# EAGLE library part TMPM373FWDUG (library TMPM373FWDUG)
Toshiba Source: Datasheet <https://www.google.co.jp/url?sa=t&rct=j&q=&esrc=s&source=web&cd=3&ved=0ahUKEwiq3JT2yYnZAhUMmZQKHcJABQkQFgg1MAI&url=https://toshiba.semicon-storage.com/info/docget.jsp?did=14205&prodName=TMPM373FWDUG&usg=AOvVaw0T5kWW_QBeWivZH9mjqKmO>
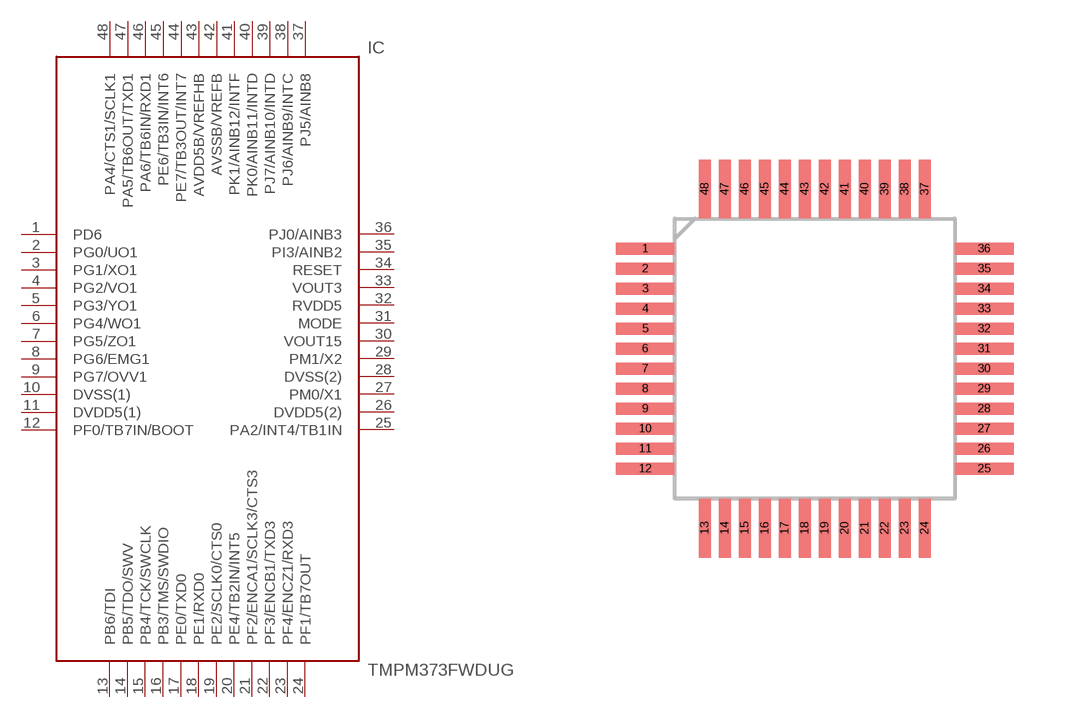
[diagram p0: symbol with the pads of QFP50P900X900X160-48N; footprint QFP50P900X900X160-48N]

Designator prefix IC

## TMPM373FWDUG (DESCRIPTION: Toshiba; HEIGHT: 1.6mm; MANUFACTURER_NAME: Toshiba; MANUFACTURER_PART_NUMBER: TMPM373FWDUG; SUPPLIER_NAME: RS)  [QFP50P900X900X160-48N]
1  PD6  pas
2  PG0/UO1  pas
3  PG1/XO1  pas
4  PG2/VO1  pas
5  PG3/YO1  pas
6  PG4/WO1  pas
7  PG5/ZO1  pas
8  PG6/EMG1  pas
9  PG7/OVV1  pas
10  DVSS(1)  pwr
11  DVDD5(1)  pwr
12  PF0/TB7IN/BOOT  pas
13  PB6/TDI  pas
14  PB5/TDO/SWV  pas
15  PB4/TCK/SWCLK  pas
16  PB3/TMS/SWDIO  pas
17  PE0/TXD0  pas
18  PE1/RXD0  pas
19  PE2/SCLK0/CTS0  pas
20  PE4/TB2IN/INT5  pas
21  PF2/ENCA1/SCLK3/CTS3  pas
22  PF3/ENCB1/TXD3  pas
23  PF4/ENCZ1/RXD3  pas
24  PF1/TB7OUT  pas
25  PA2/INT4/TB1IN  pas
26  DVDD5(2)  pwr
27  PM0/X1  pas
28  DVSS(2)  pwr
29  PM1/X2  pas
30  VOUT15  pwr
31  MODE  in
32  RVDD5  pwr
33  VOUT3  pwr
34  RESET  in
35  PI3/AINB2  pas
36  PJ0/AINB3  pas
37  PJ5/AINB8  pas
38  PJ6/AINB9/INTC  pas
39  PJ7/AINB10/INTD  pas
40  PK0/AINB11/INTD  pas
41  PK1/AINB12/INTF  pas
42  AVSSB/VREFB  pas
43  AVDD5B/VREFHB  pas
44  PE7/TB3OUT/INT7  pas
45  PE6/TB3IN/INT6  pas
46  PA6/TB6IN/RXD1  pas
47  PA5/TB6OUT/TXD1  pas
48  PA4/CTS1/SCLK1  pas

## Footprint QFP50P900X900X160-48N (pad centres in mm)
LQFP48-P-0707-0.50C
smd 1.475 x 0.3: 1 -4.238,2.75; 2 -4.238,2.25; 3 -4.238,1.75; 4 -4.238,1.25; 5 -4.238,0.75; 6 -4.238,0.25; 7 -4.238,-0.25; 8 -4.238,-0.75; 9 -4.238,-1.25; 10 -4.238,-1.75; 11 -4.238,-2.25; 12 -4.238,-2.75; 25 4.238,-2.75; 26 4.238,-2.25; 27 4.238,-1.75; 28 4.238,-1.25; 29 4.238,-0.75; 30 4.238,-0.25; 31 4.238,0.25; 32 4.238,0.75; 33 4.238,1.25; 34 4.238,1.75; 35 4.238,2.25; 36 4.238,2.75
smd 0.3 x 1.475: 13 -2.75,-4.238; 14 -2.25,-4.238; 15 -1.75,-4.238; 16 -1.25,-4.238; 17 -0.75,-4.238; 18 -0.25,-4.238; 19 0.25,-4.238; 20 0.75,-4.238; 21 1.25,-4.238; 22 1.75,-4.238; 23 2.25,-4.238; 24 2.75,-4.238; 37 2.75,4.238; 38 2.25,4.238; 39 1.75,4.238; 40 1.25,4.238; 41 0.75,4.238; 42 0.25,4.238; 43 -0.25,4.238; 44 -0.75,4.238; 45 -1.25,4.238; 46 -1.75,4.238; 47 -2.25,4.238; 48 -2.75,4.238